# EAGLE library part CY7C68001 (library xess)
EZ-USB SX2 High-speed USB Interface Device
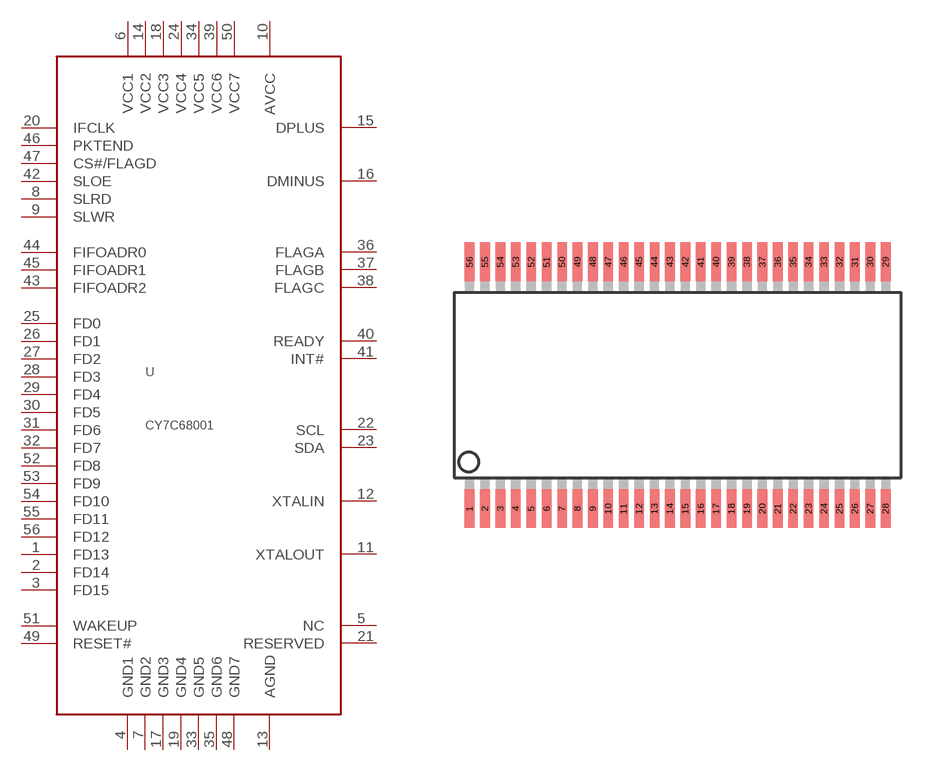
[diagram p26: symbol with the pads of SSOP56; footprint SSOP56]

Designator prefix U

## CY7C68001  [SSOP56]
1  FD13
2  FD14
3  FD15
4  GND1
5  NC  nc
6  VCC1
7  GND2
8  SLRD  in
9  SLWR  in
10  AVCC
11  XTALOUT  out
12  XTALIN  in
13  AGND
14  VCC2
15  DPLUS
16  DMINUS
17  GND3
18  VCC3
19  GND4
20  IFCLK
21  RESERVED  in
22  SCL  in
23  SDA
24  VCC4
25  FD0
26  FD1
27  FD2
28  FD3
29  FD4
30  FD5
31  FD6
32  FD7
33  GND5
34  VCC5
35  GND6
36  FLAGA  out
37  FLAGB  out
38  FLAGC  out
39  VCC6
40  READY  out
41  INT#  out
42  SLOE  in
43  FIFOADR2  in
44  FIFOADR0  in
45  FIFOADR1  in
46  PKTEND  in
47  CS#/FLAGD  in
48  GND7
49  RESET#  in
50  VCC7
51  WAKEUP  in
52  FD8
53  FD9
54  FD10
55  FD11
56  FD12

## Footprint SSOP56 (pad centres in mm)
smd 0.4 x 1.6: 1 -10.795,-8.255; 2 -10.16,-8.255; 3 -9.525,-8.255; 4 -8.89,-8.255; 5 -8.255,-8.255; 6 -7.62,-8.255; 7 -6.985,-8.255; 8 -6.35,-8.255; 9 -5.715,-8.255; 10 -5.08,-8.255; 11 -4.445,-8.255; 12 -3.81,-8.255; 13 -3.175,-8.255; 14 -2.54,-8.255; 15 -1.905,-8.255; 16 -1.27,-8.255; 17 -0.635,-8.255; 18 0,-8.255; 19 0.635,-8.255; 20 1.27,-8.255; 21 1.905,-8.255; 22 2.54,-8.255; 23 3.175,-8.255; 24 3.81,-8.255; 25 4.445,-8.255; 26 5.08,-8.255; 27 5.715,-8.255; 28 6.35,-8.255; 29 6.35,1.905; 30 5.715,1.905; 31 5.08,1.905; 32 4.445,1.905; 33 3.81,1.905; 34 3.175,1.905; 35 2.54,1.905; 36 1.905,1.905; 37 1.27,1.905; 38 0.635,1.905; 39 0,1.905; 40 -0.635,1.905; 41 -1.27,1.905; 42 -1.905,1.905; 43 -2.54,1.905; 44 -3.175,1.905; 45 -3.81,1.905; 46 -4.445,1.905; 47 -5.08,1.905; 48 -5.715,1.905; 49 -6.35,1.905; 50 -6.985,1.905; 51 -7.62,1.905; 52 -8.255,1.905; 53 -8.89,1.905; 54 -9.525,1.905; 55 -10.16,1.905; 56 -10.795,1.905